# Altium schematic symbol library rohm-pmic.SchLib: 2 symbols
Pins are listed as number, name and electrical type; pins without a type are passive.

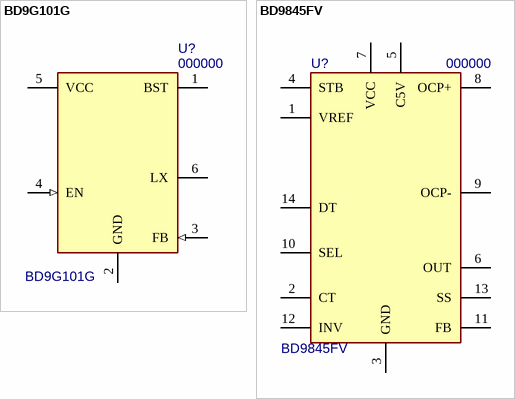
[diagram p0: symbols BD9G101G to BD9845FV]

## BD9G101G
designator U?, comment 000000  value BD9G101G
0.5A, 42V, 1.5MHz Step-Down Converter; MF: Rohm; PN: 000000; Package: SOT-23-6; ExtraInfo: *
footprint SSOP6 (SOT23, 6-Leads, Body 3.1x3.0mm (max), Pitch 0.95mm, IPC Medium Density)
pins: 1 BST (oc), 2 GND (power), 3 FB (in), 4 EN (in), 5 VCC (power), 6 LX (oc)

## BD9845FV
designator U?, comment 000000  value BD9845FV
Buck Switching Regulator; MF: ROHM; MF PN: BD9845FV-E2; PN: 000000; Package: MSOP-8; ExtraInfo: *; Price: 0.70200; Digi-Key PN: BD9845FV-E2CT-ND
footprint SSOP-B14 (TSOP, 14-Leads, Body 5.1x4.5mm (max), Pitch 0.65mm, IPC Medium Density)
pins: 1 VREF (power), 2 CT, 3 GND (power), 4 STB, 5 C5V (power), 6 OUT, 7 VCC (power), 8 OCP+, 9 OCP-, 10 SEL, 11 FB, 12 INV, 13 SS, 14 DT